# Altium schematic symbol library K50-29.SchLib: 1 symbol
Pins are listed as number, name and electrical type; pins without a type are passive.

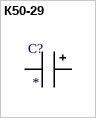
[diagram p0: symbol К50-29]

## К50-29
designator C?
footprint K50-29
pins: 0, 1